# EAGLE library part PINHD-2X30 (library pinhead-enhanced-3)
PIN HEADER
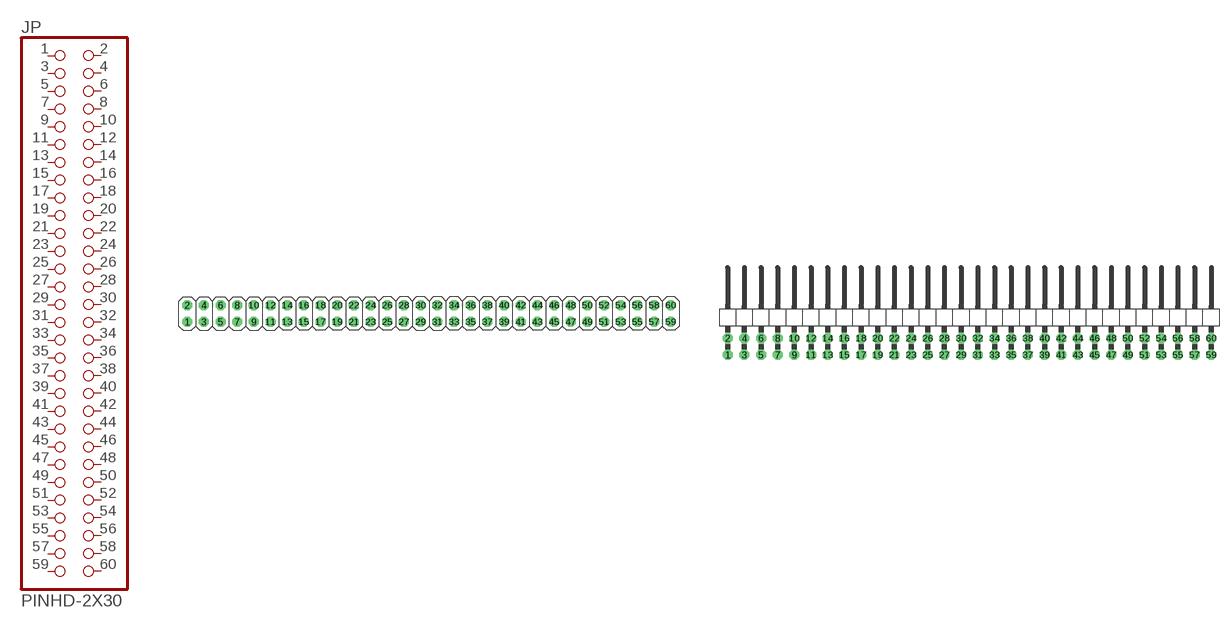
[diagram p42: symbol with the pads of 2X30; footprints 2X30, 2X30/90]

Designator prefix JP

## PINHD-2X30  [2X30]
1  1  pas
2  2  pas
3  3  pas
4  4  pas
5  5  pas
6  6  pas
7  7  pas
8  8  pas
9  9  pas
10  10  pas
11  11  pas
12  12  pas
13  13  pas
14  14  pas
15  15  pas
16  16  pas
17  17  pas
18  18  pas
19  19  pas
20  20  pas
21  21  pas
22  22  pas
23  23  pas
24  24  pas
25  25  pas
26  26  pas
27  27  pas
28  28  pas
29  29  pas
30  30  pas
31  31  pas
32  32  pas
33  33  pas
34  34  pas
35  35  pas
36  36  pas
37  37  pas
38  38  pas
39  39  pas
40  40  pas
41  41  pas
42  42  pas
43  43  pas
44  44  pas
45  45  pas
46  46  pas
47  47  pas
48  48  pas
49  49  pas
50  50  pas
51  51  pas
52  52  pas
53  53  pas
54  54  pas
55  55  pas
56  56  pas
57  57  pas
58  58  pas
59  59  pas
60  60  pas

## PINHD-2X30/90  [2X30/90]
Pads as for 2X30

## Footprint 2X30 (pad centres in mm)
PIN HEADER
drill 1.016 octagon: 1 -38.1,-1.27; 2 -38.1,1.27; 3 -35.56,-1.27; 4 -35.56,1.27; 5 -33.02,-1.27; 6 -33.02,1.27; 7 -30.48,-1.27; 8 -30.48,1.27; 9 -27.94,-1.27; 10 -27.94,1.27; 11 -25.4,-1.27; 12 -25.4,1.27; 13 -22.86,-1.27; 14 -22.86,1.27; 15 -20.32,-1.27; 16 -20.32,1.27; 17 -17.78,-1.27; 18 -17.78,1.27; 19 -15.24,-1.27; 20 -15.24,1.27; 21 -12.7,-1.27; 22 -12.7,1.27; 23 -10.16,-1.27; 24 -10.16,1.27; 25 -7.62,-1.27; 26 -7.62,1.27; 27 -5.08,-1.27; 28 -5.08,1.27; 29 -2.54,-1.27; 30 -2.54,1.27; 31 0,-1.27; 32 0,1.27; 33 2.54,-1.27; 34 2.54,1.27; 35 5.08,-1.27; 36 5.08,1.27; 37 7.62,-1.27; 38 7.62,1.27; 39 10.16,-1.27; 40 10.16,1.27; 41 12.7,-1.27; 42 12.7,1.27; 43 15.24,-1.27; 44 15.24,1.27; 45 17.78,-1.27; 46 17.78,1.27; 47 20.32,-1.27; 48 20.32,1.27; 49 22.86,-1.27; 50 22.86,1.27; 51 25.4,-1.27; 52 25.4,1.27; 53 27.94,-1.27; 54 27.94,1.27; 55 30.48,-1.27; 56 30.48,1.27; 57 33.02,-1.27; 58 33.02,1.27; 59 35.56,-1.27; 60 35.56,1.27

## Footprint 2X30/90 (pad centres in mm)
PIN HEADER
drill 1.016 octagon: 1 -36.83,-6.35; 2 -36.83,-3.81; 3 -34.29,-6.35; 4 -34.29,-3.81; 5 -31.75,-6.35; 6 -31.75,-3.81; 7 -29.21,-6.35; 8 -29.21,-3.81; 9 -26.67,-6.35; 10 -26.67,-3.81; 11 -24.13,-6.35; 12 -24.13,-3.81; 13 -21.59,-6.35; 14 -21.59,-3.81; 15 -19.05,-6.35; 16 -19.05,-3.81; 17 -16.51,-6.35; 18 -16.51,-3.81; 19 -13.97,-6.35; 20 -13.97,-3.81; 21 -11.43,-6.35; 22 -11.43,-3.81; 23 -8.89,-6.35; 24 -8.89,-3.81; 25 -6.35,-6.35; 26 -6.35,-3.81; 27 -3.81,-6.35; 28 -3.81,-3.81; 29 -1.27,-6.35; 30 -1.27,-3.81; 31 1.27,-6.35; 32 1.27,-3.81; 33 3.81,-6.35; 34 3.81,-3.81; 35 6.35,-6.35; 36 6.35,-3.81; 37 8.89,-6.35; 38 8.89,-3.81; 39 11.43,-6.35; 40 11.43,-3.81; 41 13.97,-6.35; 42 13.97,-3.81; 43 16.51,-6.35; 44 16.51,-3.81; 45 19.05,-6.35; 46 19.05,-3.81; 47 21.59,-6.35; 48 21.59,-3.81; 49 24.13,-6.35; 50 24.13,-3.81; 51 26.67,-6.35; 52 26.67,-3.81; 53 29.21,-6.35; 54 29.21,-3.81; 55 31.75,-6.35; 56 31.75,-3.81; 57 34.29,-6.35; 58 34.29,-3.81; 59 36.83,-6.35; 60 36.83,-3.81